# Altium schematic symbol library NTC.Schlib: 1 symbol
Pins are listed as number, name and electrical type; pins without a type are passive.

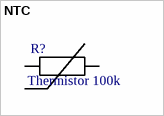
[diagram p0: symbol NTC]

## NTC
designator R?, comment Thermistor 100k
pins: 1 R1, 2 R2